# EAGLE library part PCF85263 (library divchrono)
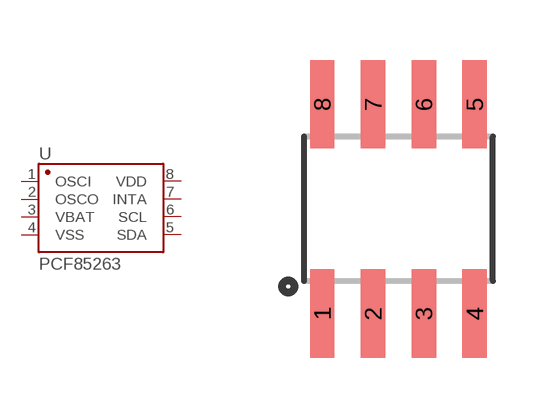
[diagram p0: symbol with the pads of SOIC-8; footprint SOIC-8]

Designator prefix -

## PCF85263  [SOIC-8]
1  OSCI
2  OSCO
3  VBAT  pwr
4  VSS  pwr
5  SDA
6  SCL
7  INTA
8  VDD  pwr

## Footprint SOIC-8 (pad centres in mm)
Small Outline Package Fits JEDEC packages (narrow SOIC-8)
smd 0.61 x 2.21: 1 -1.905,-2.616; 2 -0.635,-2.616; 3 0.635,-2.616; 4 1.905,-2.616; 5 1.905,2.616; 6 0.635,2.616; 7 -0.635,2.616; 8 -1.905,2.616